# Altium footprint library Clock.PcbLib: 8 footprints
Each footprint in its own frame and in the unit in brackets; x right, y up, seen from the top. Pads: shape width x height; smd on the part's side, far side on the other; paste and mask are expansions set on the pad; w line width, h text height; cw(c..) or ccw(c..) is an arc to the next point about the centre after c.
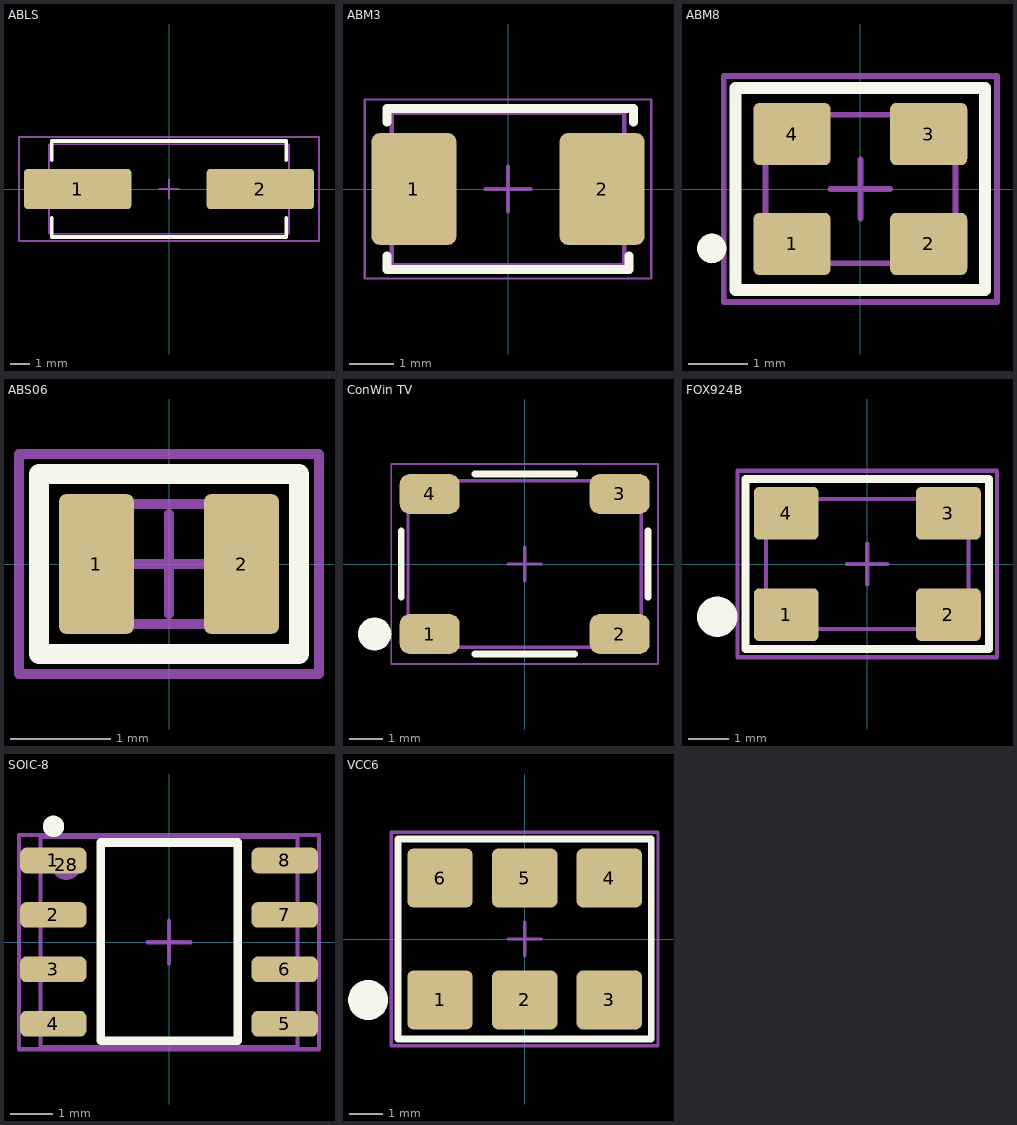
[diagram p0: the footprints below, top view; thin cyan lines are the x and y axes]

## ABLS [mm]
pads (2):
  rrect20% 5.6x2.1 smd: 1(-4.75,0) 2(4.75,0)
Top Overlay:
  lines w0.2: -6.1,-1.5 -6.1,-2.5 6.1,-2.5 6.1,-1.5 ; -6.1,1.5 -6.1,2.5 6.1,2.5 6.1,1.5
Mechanical 1:
  lines w0.1: -6.25,-2.325 6.25,-2.325 6.25,2.325 -6.25,2.325 -6.25,-2.325
Mechanical 15:
  lines w0.1: -0.5,0 0.5,0 ; 0,-0.5 0,0.5 ; -7.8,-2.7 7.8,-2.7 7.8,2.7 -7.8,2.7 -7.8,-2.7
3D body "Crystal_SMD_HC49-SD.step": height 4, standoff 0, extent -6.25,-2.325 6.25,2.325

## ABM3 [mm] "ZQ ABM3"
height 1.3
pads (2):
  rrect20% 1.9x2.5 smd: 1(-2.1,0) 2(2.1,0)
Top Overlay:
  lines w0.2: -2.7,-1.5 -2.7,-1.8 2.7,-1.8 2.7,-1.5 ; -2.7,1.5 -2.7,1.8 2.8,1.8 2.8,1.5
Mechanical 1:
  lines w0.1: -2.6,-1.7 -2.6,1.7 2.6,1.7 2.6,-1.7 -2.6,-1.7
Mechanical 15:
  lines w0.05: -3.2,-2 3.2,-2 3.2,2 -3.2,2 -3.2,-2
  lines w0.1: -0.5,0 0.5,0 ; 0,-0.5 0,0.5
3D body "User Library-ABM3.STEP": height 1.3, standoff 0, extent -2.6,-1.7 2.6,1.7

## ABM8 [mm]
height 0.55
pads (5):
  rrect20% 1.3x1.05 smd: 1(-1.15,-0.925) 2(1.15,-0.925) 3(1.15,0.925) 4(-1.15,0.925)
  round 0.5 on Top Overlay: ""(-2.5,-1)
Top Overlay:
  lines w0.2: -2.1,-1.7 -2.1,1.7 2.1,1.7 2.1,-1.7 -2.1,-1.7
Mechanical 1:
  lines w0.1: -1.6,-1.25 1.6,-1.25 1.6,1.25 -1.6,1.25 -1.6,-1.25
Mechanical 15:
  lines w0.1: -0.5,0 0.5,0 ; 0,-0.5 0,0.5 ; -2.3,-1.9 2.3,-1.9 2.3,1.9 -2.3,1.9 -2.3,-1.9
3D body "Abracon_ABM8.STEP": height 0.8, standoff 0, extent -1.6,-1.25 1.6,1.25

## ABS06 [mm]
pads (2):
  rrect20% 0.75x1.4 smd: 1(-0.725,0) 2(0.725,0)
Top Overlay:
  lines w0.2: -1.3,-0.9 1.3,-0.9 1.3,0.9 -1.3,0.9 -1.3,-0.9
Mechanical 1:
  lines w0.1: -1,-0.6 1,-0.6 1,0.6 -1,0.6 -1,-0.6
Mechanical 15:
  lines w0.1: -0.5,0 0.5,0 ; 0,-0.5 0,0.5 ; -1.5,-1.1 1.5,-1.1 1.5,1.1 -1.5,1.1 -1.5,-1.1
3D body "Abracon_ABS06.STEP": height 0.6, standoff 0, extent -1,-0.6 1,0.6

## ConWin TV [mm]
pads (5):
  rrect50% 1.8x1.2 smd: 1(-2.85,-2.1) 2(2.85,-2.1) 3(2.85,2.1) 4(-2.85,2.1)
  round 1 on Top Overlay: ""(-4.5,-2.1)
Top Overlay:
  lines w0.2: -3.7,-1 -3.7,1 ; -1.5,-2.7 1.5,-2.7 ; -1.5,2.7 1.5,2.7 ; 3.7,-1 3.7,1
Mechanical 1:
  lines w0.1: -3.5,-2.5 -3.5,2.5 3.5,2.5 3.5,-2.5 -3.5,-2.5
Mechanical 15:
  lines w0.05: -4,-3 4,-3 4,3 -4,3 -4,-3
  lines w0.1: -0.5,0 0.5,0 ; 0,-0.5 0,0.5
3D body "ConWin_TV_Series.STEP": height 2.4, standoff 0, extent -3.5,-2.5 3.5,2.5

## FOX924B [mm]
pads (5):
  rrect20% 1.6x1.3 smd: 1(-2,-1.25) 2(2,-1.25) 3(2,1.25) 4(-2,1.25)
  round 1 on Top Overlay: ""(-3.7,-1.3)
Top Overlay:
  lines w0.2: -3,-2.1 3,-2.1 3,2.1 -3,2.1 -3,-2.1
Mechanical 1:
  lines w0.1: -2.5,-1.6 2.5,-1.6 2.5,1.6 -2.5,1.6 -2.5,-1.6
Mechanical 15:
  lines w0.1: -0.5,0 0.5,0 ; 0,-0.5 0,0.5 ; -3.2,-2.3 -3.2,2.3 3.2,2.3 3.2,-2.3 -3.2,-2.3
3D body "FOX924B.STEP": height 1.5, standoff 0, extent -2.5,-1.6 2.5,1.6

## SOIC-8 [mm] "pitch 1.27 mm"
pads (9):
  rrect50% 1.55x0.6 smd: 1(-2.7,1.905) 2(-2.7,0.635) 3(-2.7,-0.635) 4(-2.7,-1.905) 5(2.7,-1.905) 6(2.7,-0.635) 7(2.7,0.635) 8(2.7,1.905)
  round 0.7 on Mech1: 28(-2.395,1.8)
Top Overlay:
  circle w0.25: c-2.695,2.7 r0.125
  lines w0.2: -1.595,-2.3 -1.595,2.325 1.605,2.325 1.605,-2.3 -1.595,-2.3
Mechanical 1:
  lines w0.1: -3,-2.45 3,-2.45 3,2.45 -3,2.45 -3,-2.45
Mechanical 15:
  lines w0.1: -0.5,0 0.5,0 ; 0,-0.5 0,0.5 ; -3.5,-2.5 3.5,-2.5 3.5,2.5 -3.5,2.5 -3.5,-2.5
3D body "SOIC-8_3.9x4.9mm_P1.27mm.step": height 1.75, standoff 0, extent -3,-2.45 3,2.45

## VCC6 [mm]
pads (6):
  rrect20% 1.96x1.76 smd: 1(-2.54,-1.83) 2(0,-1.83) 3(2.54,-1.83) 4(2.54,1.83) 5(0,1.83) 6(-2.54,1.83)
Top Overlay:
  circle w0.6: c-4.7,-1.83 r0.3
  lines w0.2: -3.8,-3 3.8,-3 3.8,3 -3.8,3 -3.8,-3
Mechanical 15:
  lines w0.1: -0.5,0 0.5,0 ; 0,-0.5 0,0.5 ; -4,-3.2 4,-3.2 4,3.2 -4,3.2 -4,-3.2